# EAGLE library part 691322310006 (library Wurth_Elektronik_Electromechanic_Terminal_Blocks_Connectors_rev16b)
WR-TBL Serie 322 - 3.81mm Vertical PCB Header , 6 Pins=>Code : Con_TBL_Pluggable_3.81_PCB_THT_Simple_691322310006 <http://katalog.we-online.de/media/images/eican/Con_TBL_Pluggable_3.81_PCB_THT_Simple_6913223100xx_pf2.jpg> Details see: http://katalog.we-online.de/en/em/691_322_310_0xx Created 2014-06-19, Karrer Zheng 2014 (C) Würth Elektronik
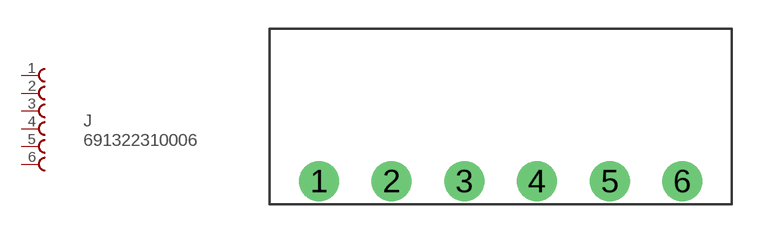
[diagram p37: symbol with the pads of 691322310006; footprint 691322310006]

Designator prefix J

## 691322310006  [691322310006]
1  1  pas
2  2  pas
3  3  pas
4  4  pas
5  5  pas
6  6  pas

## Footprint 691322310006 (pad centres in mm)
WR-TBL Serie 322 - 3.81mm Vertical PCB Header , 6 Pins
drill 1.4: 1 -3.81,0; 2 0,0; 3 3.81,0; 4 7.62,0; 5 11.43,0; 6 15.24,0